# EAGLE library part MICS-4514 (library User-Submitted)
SGX Sensortech MiCS-4514 Ozone Detector The MiCS-4514 is a dual, robust MEMS sensor for the detection of pollution from automobile exhausts. This device detects carbon monoxide (CO) and nitrogen dioxide (NO2). Datasheet <https://sgx.cdistore.com/datasheets/e2v/0278_Datasheet%20MiCS-4514%20rev%2016.pdf> SparkFun Products Not currently in use.
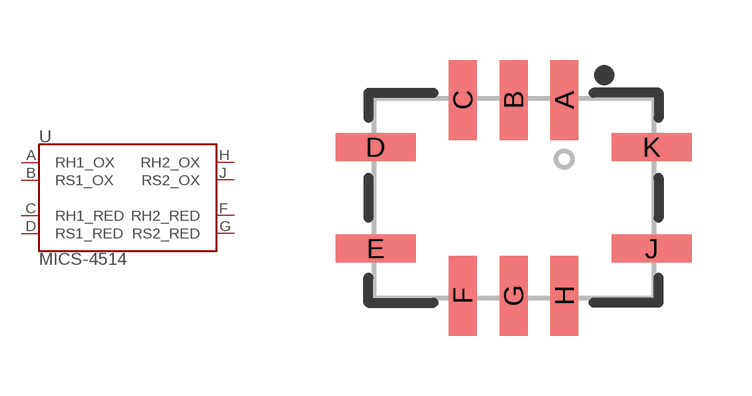
[diagram p11: symbol with the pads of MICS-XXXX; footprint MICS-XXXX]

Designator prefix -

## MICS-4514 (PROD_ID: COMP-12310)  [MICS-XXXX]
A  RH1_OX
B  RS1_OX
C  RH1_RED
D  RS1_RED
F  RH2_RED
G  RS2_RED
H  RH2_OX
J  RS2_OX

## Footprint MICS-XXXX (pad centres in mm)
SGX Sensortech MiCS-4514, MiCS-2614 Datasheet <https://sgx.cdistore.com/datasheets/e2v/0278_Datasheet%20MiCS-4514%20rev%2016.pdf> Specifications: Pin Count: 10 Area: 5.0 x 7.0 x 1.5 mm Pitch: 1.0 mm Devices Using: MICS-2614 MICS-4514
smd 0.7 x 2: A 1.27,2.45; B 0,2.45; C -1.27,2.45; F -1.27,-2.45; G 0,-2.45; H 1.27,-2.45
smd 2 x 0.7: D -3.45,1.27; E -3.45,-1.27; J 3.45,-1.27; K 3.45,1.27